# Altium footprint library RAHV1100M1UCC8002E.PcbLib: 1 footprints
Each footprint in its own frame and in the unit in brackets; x right, y up, seen from the top. Pads: shape width x height; smd on the part's side, far side on the other; paste and mask are expansions set on the pad; w line width, h text height; cw(c..) or ccw(c..) is an arc to the next point about the centre after c.
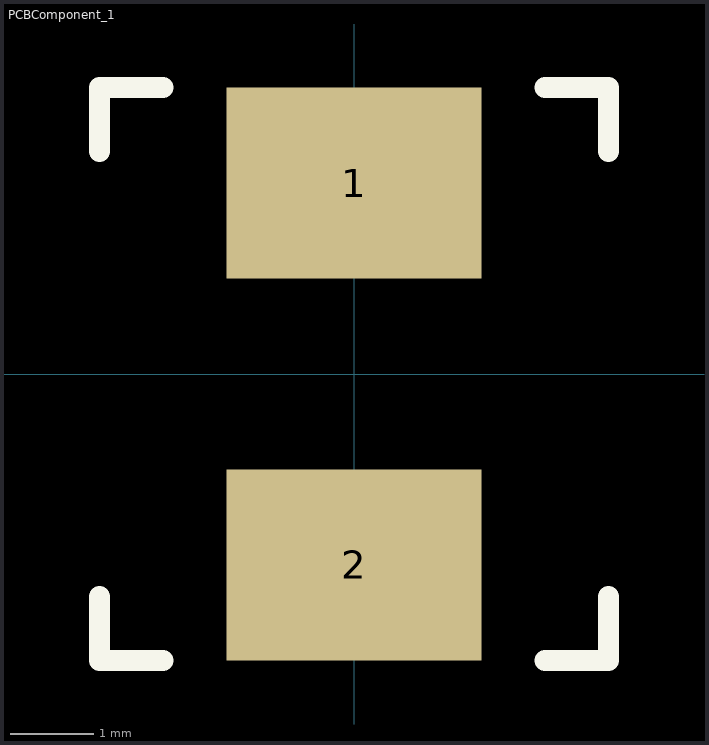
[diagram p0: the footprint, top view; thin cyan lines are the x and y axes]

## PCBComponent_1 [mil]
pads (2):
  rect 120x90 smd: 1(0,90) 2(0,-90)
Top Overlay:
  lines w10: -120,-105 -120,-135 -90,-135 ; -120,105 -120,135 -90,135 ; 90,-135 120,-135 120,-105 ; 90,135 120,135 120,105